# EAGLE library part 8POS_TERMINAL (library 8pos_block_terminal)
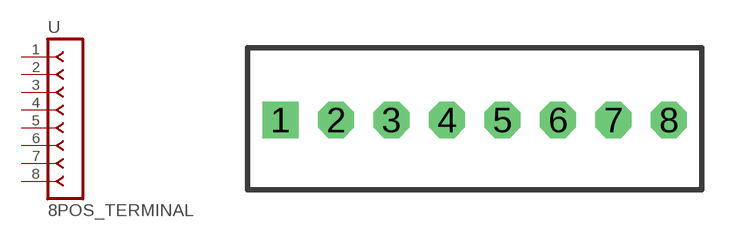
[diagram p0: symbol with the pads of 8POS_TERMINAL; footprint 8POS_TERMINAL]

Designator prefix -

## 8POS_TERMINAL  [8POS_TERMINAL]
1  1  pas
2  2  pas
3  3  pas
4  4  pas
5  5  pas
6  6  pas
7  7  pas
8  8  pas

## Footprint 8POS_TERMINAL (pad centres in mm)
drill 1.1 pad 1.3 square: 1 -8.89,0
drill 1.1 pad 1.3 octagon: 2 -6.35,0; 3 -3.81,0; 4 -1.27,0; 5 1.27,0; 6 3.81,0; 7 6.35,0; 8 8.89,0